# Altium footprint library Basic_fp_lib.PcbLib: 47 footprints (part 1 of 3)
Each footprint in its own frame and in the unit in brackets; x right, y up, seen from the top. Pads: shape width x height; smd on the part's side, far side on the other; paste and mask are expansions set on the pad; w line width, h text height; cw(c..) or ccw(c..) is an arc to the next point about the centre after c.
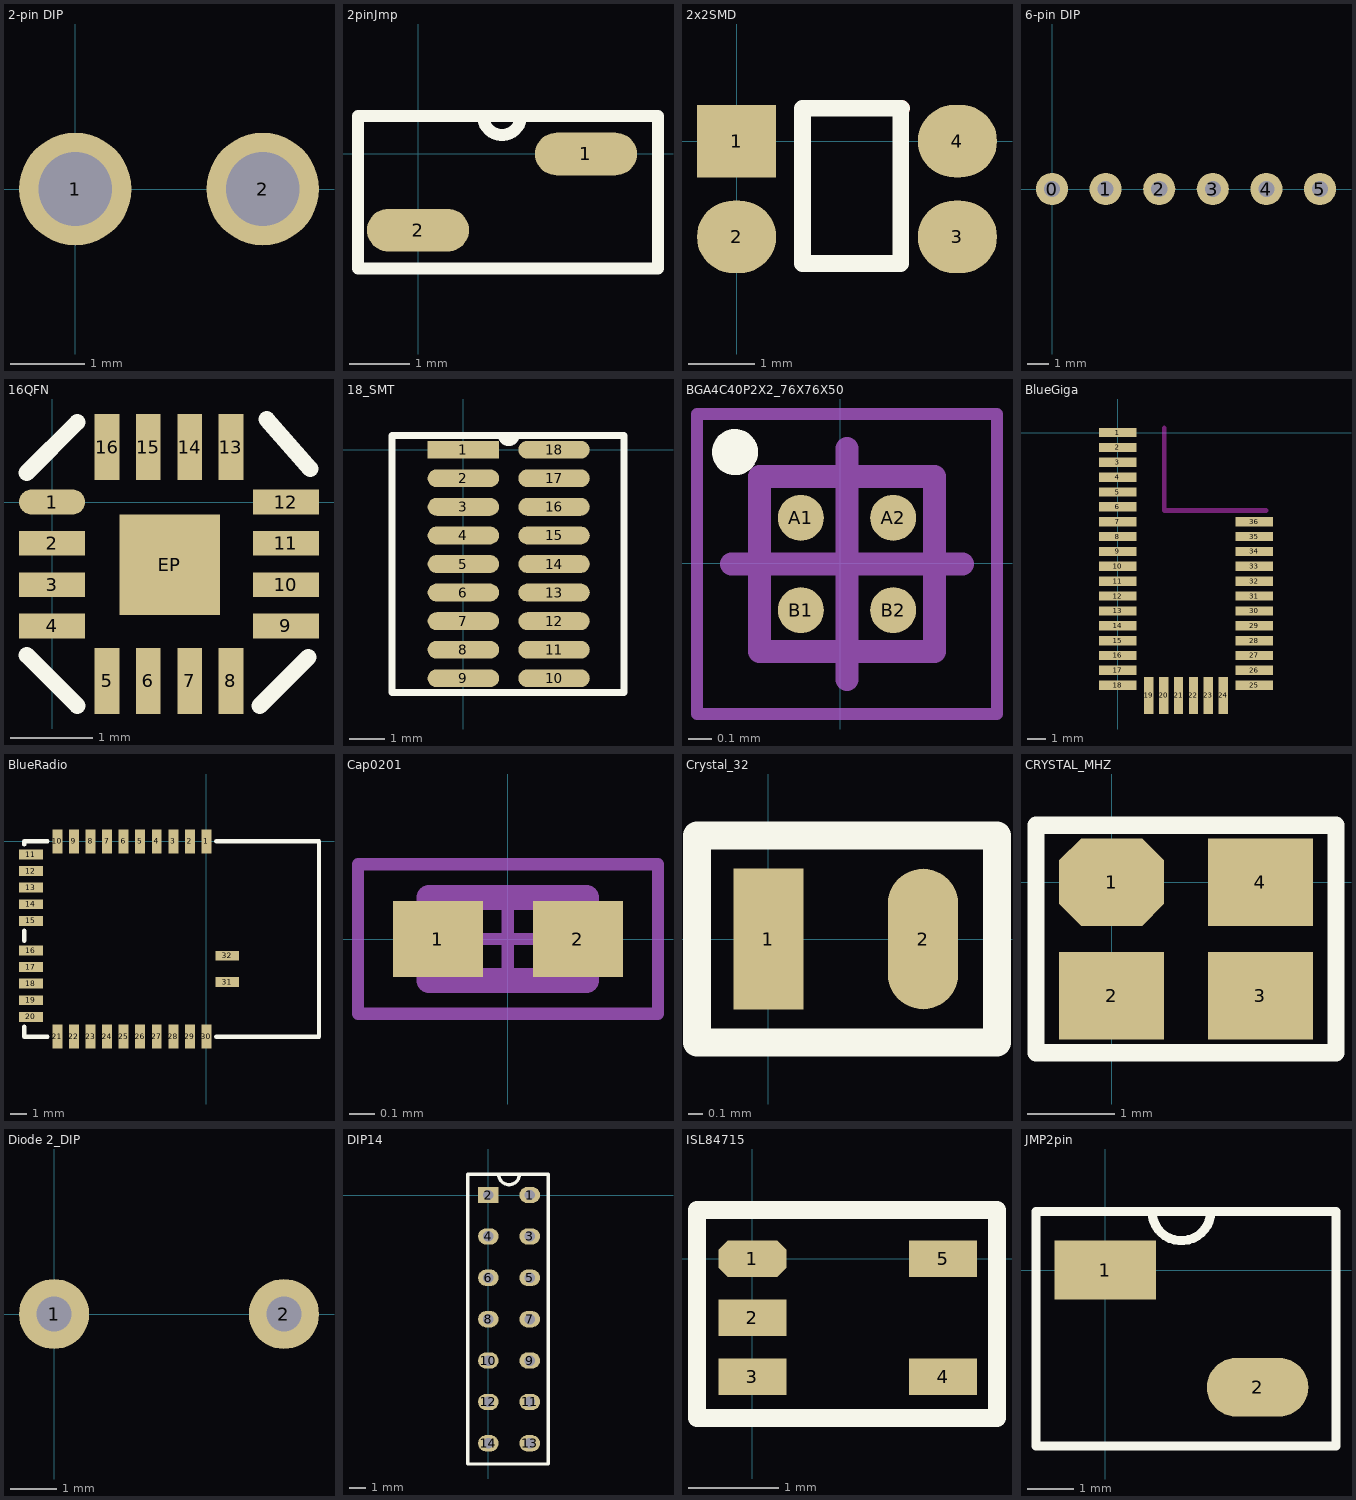
[diagram p0: the footprints below, top view; thin cyan lines are the x and y axes]

## 2-pin DIP [mil]
pads (2):
  round 60 hole 39.37: 1(0,0) 2(100,0)

## 2pinJmp [mm]
pads (2):
  oval 1.7x0.71 smd: 1(2.8,0) 2(0,-1.27)
Top Overlay:
  lines w0.2: -1,-1.905 -1,-1.27 -1,0 -1,0.635 1.717,0.635 cw(c1.4,0.635) 1.082,0.635 4,0.635 4,-1.905 -1,-1.905

## 2x2SMD [mm]
pads (4):
  rect 1.2x1.1 smd: 1(0,0)
  oval 1.2x1.1 smd: 2(0,-1.45) 3(3.35,-1.45) 4(3.35,0)
Top Layer:
  lines w0.254: 2.489,0.489 2.5,0.5
Top Overlay:
  lines w0.254: 2.489,0.489 2.489,-1.854 1,-1.854 1,0.5 2.5,0.5

## 6-pin DIP [mil]
pads (6):
  round 60 hole 30 square: 0(0,0)
  round 60 hole 30: 1(100,0) 2(200,0) 3(300,0) 4(400,0) 5(500,0)

## 16QFN [mm]
pads (17):
  oval 0.8x0.3 smd: 1(0,0)
  rect 0.8x0.3 smd: 2(0,-0.5) 3(0,-1) 4(0,-1.5) 9(2.83,-1.5) 10(2.83,-1) 11(2.83,-0.5) 12(2.83,0)
  rect 0.3x0.8 smd: 5(0.665,-2.165) 6(1.165,-2.165) 7(1.665,-2.165) 8(2.165,-2.165) 13(2.165,0.665) 14(1.665,0.665) 15(1.165,0.665) 16(0.665,0.665)
  rect 1.22x1.22 smd: EP(1.425,-0.76)
Top Overlay:
  lines w0.2: -0.305,-1.854 0.305,-2.464 ; -0.305,0.356 0.305,0.965 ; 2.515,-2.464 3.099,-1.88 ; 2.6,1 3.124,0.4

## 18_SMT [mm]
pads (18):
  rect 2x0.5 smd: 1(0,0)
  oval 2x0.5 smd: 2(0,-0.8) 3(0,-1.6) 4(0,-2.4) 5(0,-3.2) 6(0,-4) 7(0,-4.8) 8(0,-5.6) 9(0,-6.4) 10(2.54,-6.4) 11(2.54,-5.6) 12(2.54,-4.8) 13(2.54,-4) 14(2.54,-3.2) 15(2.54,-2.4) 16(2.54,-1.6) 17(2.54,-0.8) 18(2.54,0)
Top Overlay:
  lines w0.2: -2,-6.8 -2,0.4 1.47,0.4 cw(c1.27,0.4) 1.07,0.4 4.5,0.4 4.5,-6.8 -2,-6.8

## BGA4C40P2X2_76X76X50 [mm] "BGA, 4-Leads, Body 0.76x0.76mmx0.50mm, Pitch 0.40mm"
height 0.5
pads (4):
  round 0.2 smd: A1(-0.171,0.196) A2(0.229,0.196) B1(-0.171,-0.204) B2(0.229,-0.204)
Top Overlay:
  circle w0.1: c-0.456,0.481 r0.05
Mechanical 13:
  lines w0.1: -0.351,-0.384 -0.351,0.376 0.409,0.376 0.409,-0.384 -0.351,-0.384
Mechanical 15:
  lines w0.05: -0.621,-0.654 -0.621,0.646 0.679,0.646 0.679,-0.654 -0.621,-0.654
  lines w0.1: -0.471,-0.004 0.529,-0.004 ; 0.029,-0.504 0.029,0.496
3D body: height 0.5, standoff 0.19, extent -0.351,-0.384 0.409,0.376

## BlueGiga [mm]
pads (36):
  rect 2x0.5 smd: 1(0,0) 2(0,-0.8) 3(0,-1.6) 4(0,-2.4) 5(0,-3.2) 6(0,-4) 7(0,-4.8) 8(0,-5.6) 9(0,-6.4) 10(0,-7.2) 11(0,-8) 12(0,-8.8) 13(0,-9.6) 14(0,-10.4) 15(0,-11.2) 16(0,-12) 17(0,-12.8) 18(0,-13.6) 25(7.35,-13.6) 26(7.35,-12.8) 27(7.35,-12) 28(7.35,-11.2) 29(7.35,-10.4) 30(7.35,-9.6) 31(7.35,-8.8) 32(7.35,-8) 33(7.35,-7.2) 34(7.35,-6.4) 35(7.35,-5.6) 36(7.35,-4.8)
  rect 0.5x2 smd: 19(1.675,-14.15) 20(2.475,-14.15) 21(3.275,-14.15) 22(4.075,-14.15) 23(4.875,-14.15) 24(5.675,-14.15)
Keep-Out Layer:
  lines w0.254: 2.5,0.25 2.5,-4.2 8,-4.2

## BlueRadio [mm] "BLES3A"
pads (32):
  rect 0.6x1.45 smd: 1(0,0) 2(-1,0) 3(-2,0) 4(-3,0) 5(-4,0) 6(-5,0) 7(-6,0) 8(-7,0) 9(-8,0) 10(-9,0) 21(-9,-11.8) 22(-8,-11.8) 23(-7,-11.8) 24(-6,-11.8) 25(-5,-11.8) 26(-4,-11.8) 27(-3,-11.8) 28(-2,-11.8) 29(-1,-11.8) 30(0,-11.8)
  rect 1.44x0.6 smd: 11(-10.6,-0.8) 12(-10.6,-1.8) 13(-10.6,-2.8) 14(-10.6,-3.8) 15(-10.6,-4.8) 16(-10.6,-6.6) 17(-10.6,-7.6) 18(-10.6,-8.6) 19(-10.6,-9.6) 20(-10.6,-10.6) 31(1.26,-8.51) 32(1.26,-6.91)
Top Overlay:
  lines w0.254: -11,-11.2 -11,-11.8 -9.6,-11.8 ; -11,-6 -11,-5.4 ; -11,-0.2 -11,0 -9.6,0 ; 0.6,-11.8 6.8,-11.8 6.8,0 0.6,0

## Cap0201 [mm] "Hrishi_cap0201"
pads (2):
  rect 0.36x0.305 smd mask+0.064: 1(-0.28,0) 2(0.28,0)
Mechanical 13:
  lines w0.1: -0.315,-0.165 -0.315,0.165 0.315,0.165 0.315,-0.165 -0.315,-0.165
Mechanical 15:
  lines w0.05: -0.165,0 0.165,0 ; 0,-0.165 0,0.165 ; -0.6,-0.3 -0.6,0.3 0.6,0.3 0.6,-0.3 -0.6,-0.3
3D body: height 0.33, standoff 0, extent -0.165,-0.165 0.165,0.165
3D body: height 0.33, standoff 0, extent -0.315,-0.165 -0.165,0.165
3D body: height 0.33, standoff 0, extent 0.165,-0.165 0.315,0.165

## Crystal_32 [mm]
pads (2):
  rect 0.5x1 smd: 1(0,0)
  oval 0.5x1 smd: 2(1.1,0)
Top Overlay:
  lines w0.2: -0.075,0.737 1.626,0.737 1.626,-0.737 -0.508,-0.737 -0.508,0.737 1.175,0.737

## CRYSTAL_MHZ [mm]
pads (4):
  oct 1.2x1 smd: 1(0,0)
  rect 1.2x1 smd: 2(0,-1.3) 3(1.7,-1.3) 4(1.7,0)
Top Overlay:
  lines w0.2: 0.525,0.65 2.565,0.65 2.565,-1.95 -0.864,-1.95 -0.864,0.65 1.175,0.65

## Diode 2_DIP [mil]
pads (2):
  round 60 hole 30: 1(0,0) 2(196.85,0)

## DIP14 [mm]
pads (14):
  oval 1.27x1 hole 0.64: 1(2.54,0) 3(2.54,-2.54) 4(0,-2.54) 5(2.54,-5.08) 6(0,-5.08) 7(2.54,-7.62) 8(0,-7.62) 9(2.54,-10.16) 10(0,-10.16) 11(2.54,-12.7) 12(0,-12.7) 13(2.54,-15.24) 14(0,-15.24)
  rect 1.27x1 hole 0.64: 2(0,0)
Top Overlay:
  lines w0.2: -1.27,-16.51 3.683,-16.51 3.683,1.27 0.635,1.27 ccw(c1.27,1.27) 1.905,1.27 -1.27,1.27 -1.27,-16.51

## ISL84715 [mm]
pads (5):
  oct 0.75x0.4 smd: 1(0,0)
  rect 0.75x0.4 smd: 2(0,-0.65) 3(0,-1.3) 4(2.1,-1.3) 5(2.1,0)
Top Overlay:
  lines w0.2: 0.888,0.533 2.692,0.533 2.692,-1.753 -0.61,-1.753 -0.61,0.533 1.212,0.533

## JMP2pin [mm]
pads (2):
  rect 2.2x1.27 smd: 1(0,0)
  oval 2.2x1.27 smd: 2(3.3,-2.54)
Top Overlay:
  lines w0.2: -1.5,-3.81 5,-3.81 5,1.27 1.015,1.27 ccw(c1.65,1.27) 2.285,1.27 -1.5,1.27 -1.5,-3.81